# Altium footprint library SOD-923.PcbLib: 1 footprints
Each footprint in its own frame and in the unit in brackets; x right, y up, seen from the top. Pads: shape width x height; smd on the part's side, far side on the other; paste and mask are expansions set on the pad; w line width, h text height; cw(c..) or ccw(c..) is an arc to the next point about the centre after c.
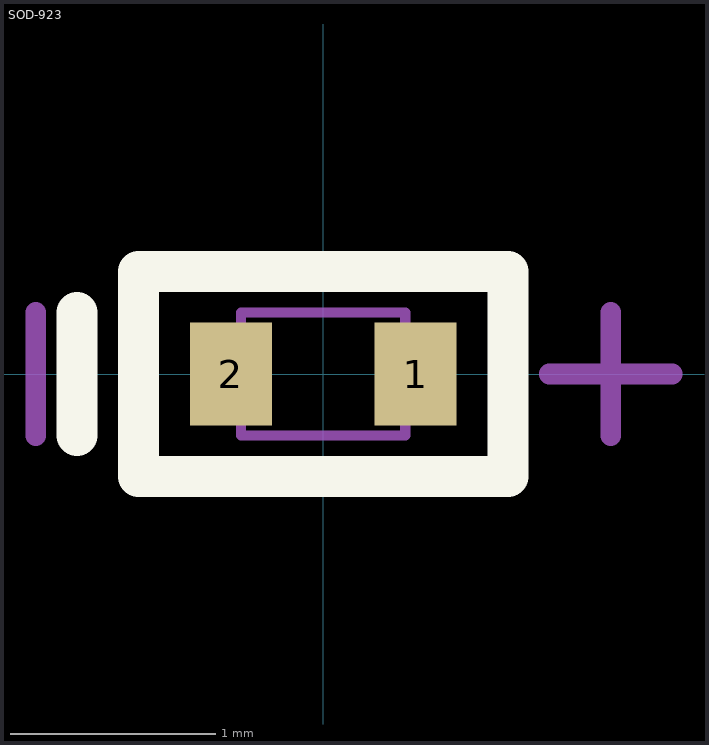
[diagram p0: the footprint, top view; thin cyan lines are the x and y axes]

## SOD-923 [mm]
pads (2):
  rect 0.4x0.5 smd: 1(0.45,0) 2(-0.45,0)
Top Overlay:
  lines w0.2: -1.2,-0.3 -1.2,0.3 ; -0.9,-0.5 -0.9,0.5 0.9,0.5 0.9,-0.5 -0.9,-0.5
Mechanical 13:
  lines w0.05: -0.4,-0.3 -0.4,0.3 0.4,0.3 0.4,-0.3 -0.4,-0.3
Mechanical 15:
  lines w0.1: -1.4,-0.3 -1.4,0.3 ; 1.1,0 1.7,0 ; 1.4,-0.3 1.4,0.3
3D body: height 0.43, standoff 0, extent -0.525,-0.325 0.525,0.325